# Altium footprint library DCP0105B_NVA.PcbLib: 1 footprints
Each footprint in its own frame and in the unit in brackets; x right, y up, seen from the top. Pads: shape width x height; smd on the part's side, far side on the other; paste and mask are expansions set on the pad; w line width, h text height; cw(c..) or ccw(c..) is an arc to the next point about the centre after c.
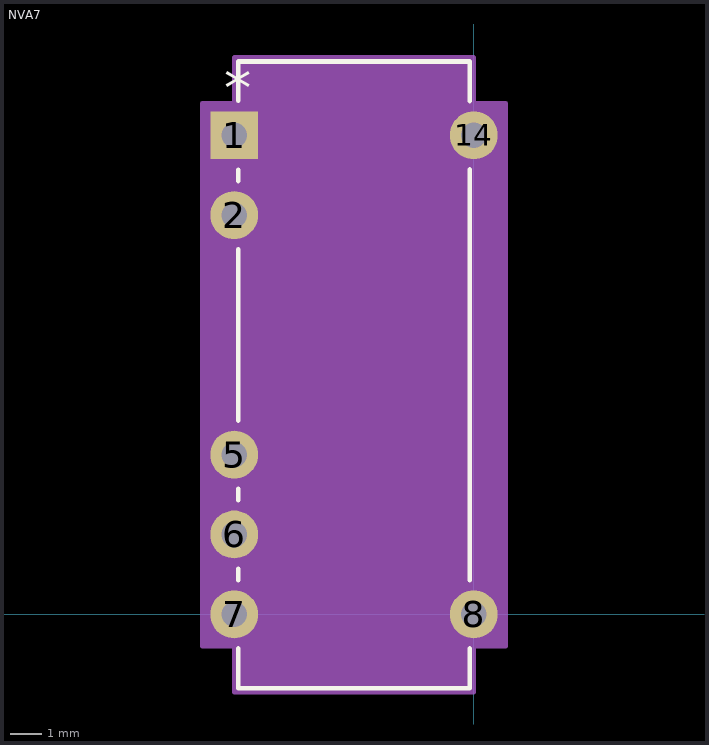
[diagram p0: the footprint, top view; thin cyan lines are the x and y axes]

## NVA7 [mil]
pads (7):
  rect 60x60 / inner round 60 / far side rect 60x60 hole 32 paste+0 mask+0: 1(-300,600)
  round 60 hole 32 paste+0 mask+0: 2(-300,500) 5(-300,200) 6(-300,100) 7(-300,0) 8(0,0) 14(0,600)
Top Overlay:
  lines w6: -295,-42.81 -295,-92.5 -5,-92.5 -5,-42.81 ; -295,42.81 -295,57.19 ; -295,142.81 -295,157.19 ; -295,242.81 -295,457.19 ; -295,542.81 -295,556.9 ; -295,643.1 -295,692.5 -5,692.5 -5,642.81 ; -5,42.81 -5,557.19
  text "*" at -312.5,635 h50
Mechanical 13:
  lines w0: -162,687.5 ccw(c-150,687.5) -138,687.5
  lines w1: -316,-16 -316,16 -290,16 -290,-16 -316,-16 ; -316,84 -316,116 -290,116 -290,84 -316,84 ; -316,184 -316,216 -290,216 -290,184 -316,184 ; -316,484 -316,516 -290,516 -290,484 -316,484 ; -316,584 -316,616 -290,616 -290,584 -316,584 ; -290,-87.5 -10,-87.5 -10,687.5 -290,687.5 -290,-87.5 ; -10,-16 -10,16 16,16 16,-16 -10,-16 ; -10,584 -10,616 16,616 16,584 -10,584
  text "*" at -292.5,575 h50
Mechanical 15:
  region: 0,-40 40,-40 40,640 0,640 0,697.5 -300,697.5 -300,640 -340,640 -340,-40 -300,-40 -300,-97.5 0,-97.5
  lines w6: -340,-40 -340,640 -300,640 -300,697.5 0,697.5 0,640 40,640 40,-40 0,-40 0,-97.5 -300,-97.5 -300,-40 -340,-40
3D body: height 10, standoff 0, extent 0,0 10,10